# EAGLE library part BAV756S (library IntegerLabs)
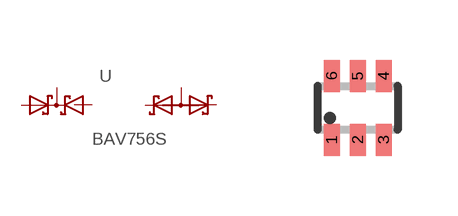
[diagram p21: symbol with the pads of SOT363_PHILIPS; footprint SOT363_PHILIPS]

Designator prefix -

## BAV756S  [SOT363_PHILIPS]
1  A1  pas
2  C2  pas
3  COMMON-ANODE  pas
4  C1  pas
5  A2  pas
6  COMMON-CATHOD  pas

## Footprint SOT363_PHILIPS (pad centres in mm)
Small Outline Transistor; 6 leads Philips Semiconductors, SOT363.pdf
smd 0.4 x 0.8: 1 -0.65,-0.8; 2 0,-0.8; 3 0.65,-0.8; 4 0.65,0.8; 5 0,0.8; 6 -0.65,0.8